# Altium footprint library WR-TBL_Spring Clamp_5.00mm.PcbLib: 78 footprints (part 3 of 5)
Each footprint in its own frame and in the unit in brackets; x right, y up, seen from the top. Pads: shape width x height; smd on the part's side, far side on the other; paste and mask are expansions set on the pad; w line width, h text height; cw(c..) or ccw(c..) is an arc to the next point about the centre after c.
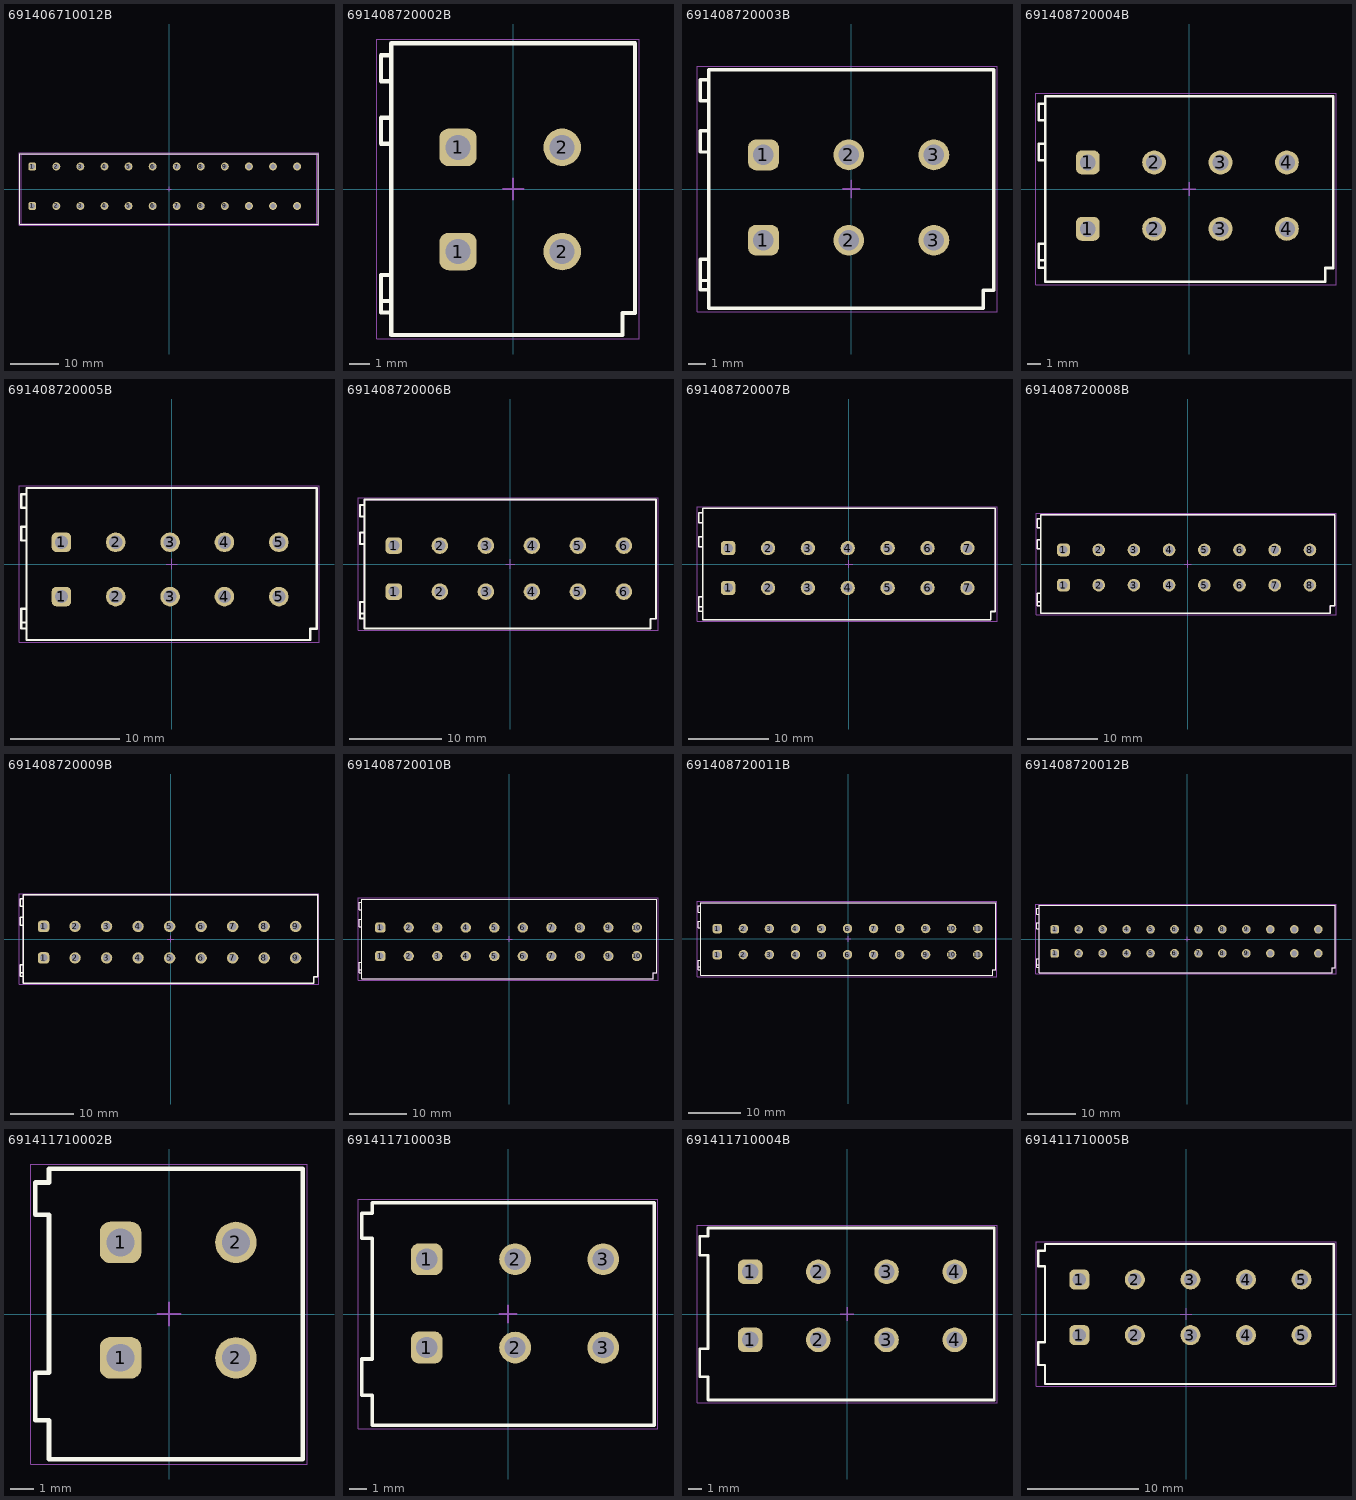
[diagram p2: the footprints below, top view; thin cyan lines are the x and y axes]

## 691406710012B [mm] "5.0MM HORIZONTAL SCREWLESS PUSH IN, 12p"
height 13.5
pads (24):
  rrect50% 1.65x1.65 hole 1.1: 1(-28.4,-3.53) 1(-28.4,4.67)
  round 1.65 hole 1.1: 2(-23.4,-3.53) 2(-23.4,4.67) 3(-18.4,-3.53) 3(-18.4,4.67) 4(-13.4,-3.53) 4(-13.4,4.67) 5(-8.4,-3.53) 5(-8.4,4.67) 6(-3.4,-3.53) 6(-3.4,4.67) 7(1.6,-3.53) 7(1.6,4.67) 8(6.6,-3.53) 8(6.6,4.67) 9(11.6,-3.53) 9(11.6,4.67) 10(16.6,-3.53) 10(16.6,4.67) 11(21.6,-3.53) 11(21.6,4.67) 12(26.6,-3.53) 12(26.6,4.67)
Top Overlay:
  lines w0.2: -30.95,-7.35 30.95,-7.35 30.95,7.35 -30.95,7.35 -30.95,-7.35
Top Assembly:
  lines w0.1: -30.7,-7.2 30.7,-7.2 30.7,7.2 -30.7,7.2 -30.7,-7.2
Top Designator:
  text ".Designator" at -3.647,-0.357 h1
Top 3D Body:
  lines w0.1: -30.7,-7.2 -30.7,7.2 30.7,7.2 30.7,-7.2 -30.7,-7.2
Top Courtyard:
  lines w0.05: -31.15,-7.55 -31.15,7.55 31.15,7.55 31.15,-7.55 -31.15,-7.55
Top Component Center:
  lines w0.1: -0.5,0 0.5,0 ; 0,-0.5 0,0.5
3D body "691406710012B.stp": height 13.55, standoff -2.45, extent -30.7,-7.2 30.7,7.2

## 691408720002B [mm] "5mm 45deg Screwless Push-in, 2p"
height 13.5
pads (4):
  rrect50% 1.8x1.8 hole 1.2: 1(-2.65,-3) 1(-2.65,2)
  round 1.8 hole 1.2: 2(2.35,-3) 2(2.35,2)
Top Overlay:
  lines w0.2: -6.35,-5.37 -5.85,-5.37 ; -5.85,-5.92 -6.35,-5.92 -6.35,-4.12 -5.85,-4.12 ; -5.85,2.17 -6.35,2.17 -6.35,3.42 -5.85,3.42 ; -5.85,5.17 -6.35,5.17 -6.35,6.42 -5.85,6.42 ; -5.85,-7 -5.85,7 5.85,7 5.85,-5.95 5.25,-5.95 5.25,-7 -5.85,-7
Top Assembly:
  lines w0.1: -6.35,-5.37 -5.85,-5.37 ; -5.85,-5.92 -6.35,-5.92 -6.35,-4.12 -5.85,-4.12 ; -5.85,2.17 -6.35,2.17 -6.35,3.42 -5.85,3.42 ; -5.85,5.17 -6.35,5.17 -6.35,6.42 -5.85,6.42 ; -5.85,-7 -5.85,7 5.85,7 5.85,-5.95 5.25,-5.95 5.25,-7 -5.85,-7
Top Designator:
  text ".Designator" at -3.647,-0.357 h1
Top 3D Body:
  lines w0.1: -6.35,-5.37 -5.85,-5.37 ; -5.85,-5.92 -6.35,-5.92 -6.35,-4.12 -5.85,-4.12 ; -5.85,2.17 -6.35,2.17 -6.35,3.42 -5.85,3.42 ; -5.85,5.17 -6.35,5.17 -6.35,6.42 -5.85,6.42 ; -5.85,-7 5.25,-7 5.25,-5.95 5.85,-5.95 5.85,7 -5.85,7 -5.85,-7
Top Courtyard:
  lines w0.05: -6.55,-7.2 6.05,-7.2 6.05,7.2 -6.55,7.2 -6.55,-7.2
Top Component Center:
  lines w0.1: -0.5,0 0.5,0 ; 0,-0.5 0,0.5
3D body "691408720002B.stp": height 13.55, standoff -4, extent -6.35,-7 5.85,7

## 691408720003B [mm] "5mm 45deg Screwless Push-in, 3p"
height 13.5
pads (6):
  rrect50% 1.8x1.8 hole 1.2: 1(-5.15,-3) 1(-5.15,2)
  round 1.8 hole 1.2: 2(-0.15,-3) 2(-0.15,2) 3(4.85,-3) 3(4.85,2)
Top Overlay:
  lines w0.2: -8.85,-5.37 -8.35,-5.37 ; -8.35,-5.92 -8.85,-5.92 -8.85,-4.12 -8.35,-4.12 ; -8.35,2.17 -8.85,2.17 -8.85,3.42 -8.35,3.42 ; -8.35,5.17 -8.85,5.17 -8.85,6.42 -8.35,6.42 ; -8.35,-7 -8.35,7 8.35,7 8.35,-5.95 7.75,-5.95 7.75,-7 -8.35,-7
Top Assembly:
  lines w0.1: -8.85,-5.37 -8.35,-5.37 ; -8.35,-5.92 -8.85,-5.92 -8.85,-4.12 -8.35,-4.12 ; -8.35,2.17 -8.85,2.17 -8.85,3.42 -8.35,3.42 ; -8.35,5.17 -8.85,5.17 -8.85,6.42 -8.35,6.42 ; -8.35,-7 -8.35,7 8.35,7 8.35,-5.95 7.75,-5.95 7.75,-7 -8.35,-7
Top Designator:
  text ".Designator" at -3.647,-0.357 h1
Top 3D Body:
  lines w0.1: -8.85,-5.37 -8.35,-5.37 ; -8.35,-5.92 -8.85,-5.92 -8.85,-4.12 -8.35,-4.12 ; -8.35,2.17 -8.85,2.17 -8.85,3.42 -8.35,3.42 ; -8.35,5.17 -8.85,5.17 -8.85,6.42 -8.35,6.42 ; -8.35,-7 7.75,-7 7.75,-5.95 8.35,-5.95 8.35,7 -8.35,7 -8.35,-7
Top Courtyard:
  lines w0.05: -9.05,-7.2 -9.05,7.2 8.55,7.2 8.55,-7.2 -9.05,-7.2
Top Component Center:
  lines w0.1: -0.5,0 0.5,0 ; 0,-0.5 0,0.5
3D body "691408720003B.stp": height 13.55, standoff -4, extent -8.85,-7 8.35,7

## 691408720004B [mm] "5mm 45deg Screwless Push-in, 4p"
height 13.5
pads (8):
  rrect50% 1.8x1.8 hole 1.2: 1(-7.65,-3) 1(-7.65,2)
  round 1.8 hole 1.2: 2(-2.65,-3) 2(-2.65,2) 3(2.35,-3) 3(2.35,2) 4(7.35,-3) 4(7.35,2)
Top Overlay:
  lines w0.2: -11.35,-5.37 -10.85,-5.37 ; -10.85,-5.92 -11.35,-5.92 -11.35,-4.12 -10.85,-4.12 ; -10.85,2.17 -11.35,2.17 -11.35,3.42 -10.85,3.42 ; -10.85,5.17 -11.35,5.17 -11.35,6.42 -10.85,6.42 ; -10.85,-7 -10.85,7 10.85,7 10.85,-5.95 10.25,-5.95 10.25,-7 -10.85,-7
Top Assembly:
  lines w0.1: -11.35,-5.37 -10.85,-5.37 ; -10.85,-5.92 -11.35,-5.92 -11.35,-4.12 -10.85,-4.12 ; -10.85,2.17 -11.35,2.17 -11.35,3.42 -10.85,3.42 ; -10.85,5.17 -11.35,5.17 -11.35,6.42 -10.85,6.42 ; -10.85,-7 -10.85,7 10.85,7 10.85,-5.95 10.25,-5.95 10.25,-7 -10.85,-7
Top Designator:
  text ".Designator" at -3.647,-0.357 h1
Top 3D Body:
  lines w0.1: -11.35,-5.37 -10.85,-5.37 ; -10.85,-5.92 -11.35,-5.92 -11.35,-4.12 -10.85,-4.12 ; -10.85,2.17 -11.35,2.17 -11.35,3.42 -10.85,3.42 ; -10.85,5.17 -11.35,5.17 -11.35,6.42 -10.85,6.42 ; -10.85,-7 10.25,-7 10.25,-5.95 10.85,-5.95 10.85,7 -10.85,7 -10.85,-7
Top Courtyard:
  lines w0.05: -11.55,-7.2 -11.55,7.2 11.05,7.2 11.05,-7.2 -11.55,-7.2
Top Component Center:
  lines w0.1: -0.5,0 0.5,0 ; 0,-0.5 0,0.5
3D body "691408720004B.stp": height 13.55, standoff -4, extent -11.35,-7 10.85,7

## 691408720005B [mm] "5mm 45deg Screwless Push-in, 5p"
height 13.5
pads (10):
  rrect50% 1.8x1.8 hole 1.2: 1(-10.15,-3) 1(-10.15,2)
  round 1.8 hole 1.2: 2(-5.15,-3) 2(-5.15,2) 3(-0.15,-3) 3(-0.15,2) 4(4.85,-3) 4(4.85,2) 5(9.85,-3) 5(9.85,2)
Top Overlay:
  lines w0.2: -13.85,-5.37 -13.35,-5.37 ; -13.35,-5.92 -13.85,-5.92 -13.85,-4.12 -13.35,-4.12 ; -13.35,2.17 -13.85,2.17 -13.85,3.42 -13.35,3.42 ; -13.35,5.17 -13.85,5.17 -13.85,6.42 -13.35,6.42 ; -13.35,-7 12.75,-7 12.75,-5.95 13.35,-5.95 13.35,7 -13.35,7 -13.35,-7
Top Assembly:
  lines w0.1: -13.85,-5.37 -13.35,-5.37 ; -13.35,-5.92 -13.85,-5.92 -13.85,-4.12 -13.35,-4.12 ; -13.35,2.17 -13.85,2.17 -13.85,3.42 -13.35,3.42 ; -13.35,5.17 -13.85,5.17 -13.85,6.42 -13.35,6.42 ; -13.35,-7 12.75,-7 12.75,-5.95 13.35,-5.95 13.35,7 -13.35,7 -13.35,-7
Top Designator:
  text ".Designator" at -3.647,-0.357 h1
Top 3D Body:
  lines w0.1: -13.85,-5.37 -13.35,-5.37 ; -13.35,-5.92 -13.85,-5.92 -13.85,-4.12 -13.35,-4.12 ; -13.35,2.17 -13.85,2.17 -13.85,3.42 -13.35,3.42 ; -13.35,5.17 -13.85,5.17 -13.85,6.42 -13.35,6.42 ; -13.35,-7 -13.35,7 13.35,7 13.35,-5.95 12.75,-5.95 12.75,-7 -13.35,-7
Top Courtyard:
  lines w0.05: -14.05,-7.2 13.55,-7.2 13.55,7.2 -14.05,7.2 -14.05,-7.2
Top Component Center:
  lines w0.1: -0.5,0 0.5,0 ; 0,-0.5 0,0.5
3D body "691408720005B.stp": height 13.55, standoff -4, extent -13.85,-7 13.35,7

## 691408720006B [mm] "5mm 45deg Screwless Push-in, 6p"
height 13.5
pads (12):
  rrect50% 1.8x1.8 hole 1.2: 1(-12.65,-3) 1(-12.65,2)
  round 1.8 hole 1.2: 2(-7.65,-3) 2(-7.65,2) 3(-2.65,-3) 3(-2.65,2) 4(2.35,-3) 4(2.35,2) 5(7.35,-3) 5(7.35,2) 6(12.35,-3) 6(12.35,2)
Top Overlay:
  lines w0.2: -16.35,-5.37 -15.85,-5.37 ; -15.85,-5.92 -16.35,-5.92 -16.35,-4.12 -15.85,-4.12 ; -15.85,2.17 -16.35,2.17 -16.35,3.42 -15.85,3.42 ; -15.85,5.17 -16.35,5.17 -16.35,6.42 -15.85,6.42 ; -15.85,-7 15.25,-7 15.25,-5.95 15.85,-5.95 15.85,7 -15.85,7 -15.85,-7
Top Assembly:
  lines w0.1: -16.35,-5.37 -15.85,-5.37 ; -15.85,-5.92 -16.35,-5.92 -16.35,-4.12 -15.85,-4.12 ; -15.85,2.17 -16.35,2.17 -16.35,3.42 -15.85,3.42 ; -15.85,5.17 -16.35,5.17 -16.35,6.42 -15.85,6.42 ; -15.85,-7 15.25,-7 15.25,-5.95 15.85,-5.95 15.85,7 -15.85,7 -15.85,-7
Top Designator:
  text ".Designator" at -3.647,-0.357 h1
Top 3D Body:
  lines w0.1: -16.35,-5.37 -15.85,-5.37 ; -15.85,-5.92 -16.35,-5.92 -16.35,-4.12 -15.85,-4.12 ; -15.85,2.17 -16.35,2.17 -16.35,3.42 -15.85,3.42 ; -15.85,5.17 -16.35,5.17 -16.35,6.42 -15.85,6.42 ; -15.85,-7 -15.85,7 15.85,7 15.85,-5.95 15.25,-5.95 15.25,-7 -15.85,-7
Top Courtyard:
  lines w0.05: -16.55,-7.2 16.05,-7.2 16.05,7.2 -16.55,7.2 -16.55,-7.2
Top Component Center:
  lines w0.1: -0.5,0 0.5,0 ; 0,-0.5 0,0.5
3D body "691408720006B.stp": height 13.55, standoff -4, extent -16.35,-7 15.85,7

## 691408720007B [mm] "5mm 45deg Screwless Push-in, 7p"
height 13.5
pads (14):
  rrect50% 1.8x1.8 hole 1.2: 1(-15.15,-3) 1(-15.15,2)
  round 1.8 hole 1.2: 2(-10.15,-3) 2(-10.15,2) 3(-5.15,-3) 3(-5.15,2) 4(-0.15,-3) 4(-0.15,2) 5(4.85,-3) 5(4.85,2) 6(9.85,-3) 6(9.85,2) 7(14.85,-3) 7(14.85,2)
Top Overlay:
  lines w0.2: -18.85,-5.37 -18.35,-5.37 ; -18.35,-5.92 -18.85,-5.92 -18.85,-4.12 -18.35,-4.12 ; -18.35,2.17 -18.85,2.17 -18.85,3.42 -18.35,3.42 ; -18.35,5.17 -18.85,5.17 -18.85,6.42 -18.35,6.42 ; -18.35,-7 17.75,-7 17.75,-5.95 18.35,-5.95 18.35,7 -18.35,7 -18.35,-7
Top Assembly:
  lines w0.1: -18.85,-5.37 -18.35,-5.37 ; -18.35,-5.92 -18.85,-5.92 -18.85,-4.12 -18.35,-4.12 ; -18.35,2.17 -18.85,2.17 -18.85,3.42 -18.35,3.42 ; -18.35,5.17 -18.85,5.17 -18.85,6.42 -18.35,6.42 ; -18.35,-7 17.75,-7 17.75,-5.95 18.35,-5.95 18.35,7 -18.35,7 -18.35,-7
Top Designator:
  text ".Designator" at -3.647,-0.357 h1
Top 3D Body:
  lines w0.1: -18.85,-5.37 -18.35,-5.37 ; -18.35,-5.92 -18.85,-5.92 -18.85,-4.12 -18.35,-4.12 ; -18.35,2.17 -18.85,2.17 -18.85,3.42 -18.35,3.42 ; -18.35,5.17 -18.85,5.17 -18.85,6.42 -18.35,6.42 ; -18.35,-7 -18.35,7 18.35,7 18.35,-5.95 17.75,-5.95 17.75,-7 -18.35,-7
Top Courtyard:
  lines w0.05: -19.05,-7.2 18.55,-7.2 18.55,7.2 -19.05,7.2 -19.05,-7.2
Top Component Center:
  lines w0.1: -0.5,0 0.5,0 ; 0,-0.5 0,0.5
3D body "691408720007B.stp": height 13.55, standoff -4, extent -18.85,-7 18.35,7

## 691408720008B [mm] "5mm 45deg Screwless Push-in, 8p"
height 13.5
pads (16):
  rrect50% 1.8x1.8 hole 1.2: 1(-17.65,-3) 1(-17.65,2)
  round 1.8 hole 1.2: 2(-12.65,-3) 2(-12.65,2) 3(-7.65,-3) 3(-7.65,2) 4(-2.65,-3) 4(-2.65,2) 5(2.35,-3) 5(2.35,2) 6(7.35,-3) 6(7.35,2) 7(12.35,-3) 7(12.35,2) 8(17.35,-3) 8(17.35,2)
Top Overlay:
  lines w0.2: -21.35,-5.37 -20.85,-5.37 ; -20.85,-5.92 -21.35,-5.92 -21.35,-4.12 -20.85,-4.12 ; -20.85,2.17 -21.35,2.17 -21.35,3.42 -20.85,3.42 ; -20.85,5.17 -21.35,5.17 -21.35,6.42 -20.85,6.42 ; -20.85,-7 -20.85,7 20.85,7 20.85,-5.95 20.25,-5.95 20.25,-7 -20.85,-7
Top Assembly:
  lines w0.1: -21.35,-5.37 -20.85,-5.37 ; -20.85,-5.92 -21.35,-5.92 -21.35,-4.12 -20.85,-4.12 ; -20.85,2.17 -21.35,2.17 -21.35,3.42 -20.85,3.42 ; -20.85,5.17 -21.35,5.17 -21.35,6.42 -20.85,6.42 ; -20.85,-7 -20.85,7 20.85,7 20.85,-5.95 20.25,-5.95 20.25,-7 -20.85,-7
Top Designator:
  text ".Designator" at -3.647,-0.357 h1
Top 3D Body:
  lines w0.1: -21.35,-5.37 -20.85,-5.37 ; -20.85,-5.92 -21.35,-5.92 -21.35,-4.12 -20.85,-4.12 ; -20.85,2.17 -21.35,2.17 -21.35,3.42 -20.85,3.42 ; -20.85,5.17 -21.35,5.17 -21.35,6.42 -20.85,6.42 ; -20.85,-7 20.25,-7 20.25,-5.95 20.85,-5.95 20.85,7 -20.85,7 -20.85,-7
Top Courtyard:
  lines w0.05: -21.55,-7.2 -21.55,7.2 21.05,7.2 21.05,-7.2 -21.55,-7.2
Top Component Center:
  lines w0.1: -0.5,0 0.5,0 ; 0,-0.5 0,0.5
3D body "691408720008B.stp": height 13.55, standoff -4, extent -21.35,-7 20.85,7

## 691408720009B [mm] "5mm 45deg Screwless Push-in, 9p"
height 13.5
pads (18):
  rrect50% 1.8x1.8 hole 1.2: 1(-20.15,-3) 1(-20.15,2)
  round 1.8 hole 1.2: 2(-15.15,-3) 2(-15.15,2) 3(-10.15,-3) 3(-10.15,2) 4(-5.15,-3) 4(-5.15,2) 5(-0.15,-3) 5(-0.15,2) 6(4.85,-3) 6(4.85,2) 7(9.85,-3) 7(9.85,2) 8(14.85,-3) 8(14.85,2) 9(19.85,-3) 9(19.85,2)
Top Overlay:
  lines w0.2: -23.85,-5.37 -23.35,-5.37 ; -23.35,-5.92 -23.85,-5.92 -23.85,-4.12 -23.35,-4.12 ; -23.35,2.17 -23.85,2.17 -23.85,3.42 -23.35,3.42 ; -23.35,5.17 -23.85,5.17 -23.85,6.42 -23.35,6.42 ; -23.35,-7 -23.35,7 23.35,7 23.35,-5.95 22.75,-5.95 22.75,-7 -23.35,-7
Top Assembly:
  lines w0.1: -23.85,-5.37 -23.35,-5.37 ; -23.35,-5.92 -23.85,-5.92 -23.85,-4.12 -23.35,-4.12 ; -23.35,2.17 -23.85,2.17 -23.85,3.42 -23.35,3.42 ; -23.35,5.17 -23.85,5.17 -23.85,6.42 -23.35,6.42 ; -23.35,-7 -23.35,7 23.35,7 23.35,-5.95 22.75,-5.95 22.75,-7 -23.35,-7
Top Designator:
  text ".Designator" at -3.647,-0.357 h1
Top 3D Body:
  lines w0.1: -23.85,-5.37 -23.35,-5.37 ; -23.35,-5.92 -23.85,-5.92 -23.85,-4.12 -23.35,-4.12 ; -23.35,2.17 -23.85,2.17 -23.85,3.42 -23.35,3.42 ; -23.35,5.17 -23.85,5.17 -23.85,6.42 -23.35,6.42 ; -23.35,-7 22.75,-7 22.75,-5.95 23.35,-5.95 23.35,7 -23.35,7 -23.35,-7
Top Courtyard:
  lines w0.05: -24.05,-7.2 -24.05,7.2 23.55,7.2 23.55,-7.2 -24.05,-7.2
Top Component Center:
  lines w0.1: -0.5,0 0.5,0 ; 0,-0.5 0,0.5
3D body "691408720009B.stp": height 13.55, standoff -4, extent -23.85,-7 23.35,7

## 691408720010B [mm] "5mm 45deg Screwless Push-in, 10p"
height 13.5
pads (20):
  rrect50% 1.8x1.8 hole 1.2: 1(-22.65,-3) 1(-22.65,2)
  round 1.8 hole 1.2: 2(-17.65,-3) 2(-17.65,2) 3(-12.65,-3) 3(-12.65,2) 4(-7.65,-3) 4(-7.65,2) 5(-2.65,-3) 5(-2.65,2) 6(2.35,-3) 6(2.35,2) 7(7.35,-3) 7(7.35,2) 8(12.35,-3) 8(12.35,2) 9(17.35,-3) 9(17.35,2) 10(22.35,-3) 10(22.35,2)
Top Overlay:
  lines w0.2: -26.35,-5.37 -25.85,-5.37 ; -25.85,-5.92 -26.35,-5.92 -26.35,-4.12 -25.85,-4.12 ; -25.85,2.17 -26.35,2.17 -26.35,3.42 -25.85,3.42 ; -25.85,5.17 -26.35,5.17 -26.35,6.42 -25.85,6.42 ; -25.85,-7 -25.85,7 25.85,7 25.85,-5.95 25.25,-5.95 25.25,-7 -25.85,-7
Top Assembly:
  lines w0.1: -26.35,-5.37 -25.85,-5.37 ; -25.85,-5.92 -26.35,-5.92 -26.35,-4.12 -25.85,-4.12 ; -25.85,2.17 -26.35,2.17 -26.35,3.42 -25.85,3.42 ; -25.85,5.17 -26.35,5.17 -26.35,6.42 -25.85,6.42 ; -25.85,-7 -25.85,7 25.85,7 25.85,-5.95 25.25,-5.95 25.25,-7 -25.85,-7
Top Designator:
  text ".Designator" at -3.647,-0.357 h1
Top 3D Body:
  lines w0.1: -26.35,-5.37 -25.85,-5.37 ; -25.85,-5.92 -26.35,-5.92 -26.35,-4.12 -25.85,-4.12 ; -25.85,2.17 -26.35,2.17 -26.35,3.42 -25.85,3.42 ; -25.85,5.17 -26.35,5.17 -26.35,6.42 -25.85,6.42 ; -25.85,-7 25.25,-7 25.25,-5.95 25.85,-5.95 25.85,7 -25.85,7 -25.85,-7
Top Courtyard:
  lines w0.05: -26.55,-7.2 -26.55,7.2 26.05,7.2 26.05,-7.2 -26.55,-7.2
Top Component Center:
  lines w0.1: -0.5,0 0.5,0 ; 0,-0.5 0,0.5
3D body "691408720010B.stp": height 13.55, standoff -4, extent -26.35,-7 25.85,7

## 691408720011B [mm] "5mm 45deg Screwless Push-in, 11p"
height 13.5
pads (22):
  rrect50% 1.8x1.8 hole 1.2: 1(-25.15,-3) 1(-25.15,2)
  round 1.8 hole 1.2: 2(-20.15,-3) 2(-20.15,2) 3(-15.15,-3) 3(-15.15,2) 4(-10.15,-3) 4(-10.15,2) 5(-5.15,-3) 5(-5.15,2) 6(-0.15,-3) 6(-0.15,2) 7(4.85,-3) 7(4.85,2) 8(9.85,-3) 8(9.85,2) 9(14.85,-3) 9(14.85,2) 10(19.85,-3) 10(19.85,2) 11(24.85,-3) 11(24.85,2)
Top Overlay:
  lines w0.2: -28.85,-5.37 -28.35,-5.37 ; -28.35,-5.92 -28.85,-5.92 -28.85,-4.12 -28.35,-4.12 ; -28.35,2.17 -28.85,2.17 -28.85,3.42 -28.35,3.42 ; -28.35,5.17 -28.85,5.17 -28.85,6.42 -28.35,6.42 ; -28.35,-7 -28.35,7 28.35,7 28.35,-5.95 27.75,-5.95 27.75,-7 -28.35,-7
Top Assembly:
  lines w0.1: -28.85,-5.37 -28.35,-5.37 ; -28.35,-5.92 -28.85,-5.92 -28.85,-4.12 -28.35,-4.12 ; -28.35,2.17 -28.85,2.17 -28.85,3.42 -28.35,3.42 ; -28.35,5.17 -28.85,5.17 -28.85,6.42 -28.35,6.42 ; -28.35,-7 -28.35,7 28.35,7 28.35,-5.95 27.75,-5.95 27.75,-7 -28.35,-7
Top Designator:
  text ".Designator" at -3.647,-0.357 h1
Top 3D Body:
  lines w0.1: -28.85,-5.37 -28.35,-5.37 ; -28.35,-5.92 -28.85,-5.92 -28.85,-4.12 -28.35,-4.12 ; -28.35,2.17 -28.85,2.17 -28.85,3.42 -28.35,3.42 ; -28.35,5.17 -28.85,5.17 -28.85,6.42 -28.35,6.42 ; -28.35,-7 27.75,-7 27.75,-5.95 28.35,-5.95 28.35,7 -28.35,7 -28.35,-7
Top Courtyard:
  lines w0.05: -29.05,-7.2 -29.05,7.2 28.55,7.2 28.55,-7.2 -29.05,-7.2
Top Component Center:
  lines w0.1: -0.5,0 0.5,0 ; 0,-0.5 0,0.5
3D body "691408720011B.stp": height 13.55, standoff -4, extent -28.85,-7 28.35,7

## 691408720012B [mm] "5mm 45deg Screwless Push-in, 12p"
height 13.5
pads (24):
  rrect50% 1.8x1.8 hole 1.2: 1(-27.65,-3) 1(-27.65,2)
  round 1.8 hole 1.2: 2(-22.65,-3) 2(-22.65,2) 3(-17.65,-3) 3(-17.65,2) 4(-12.65,-3) 4(-12.65,2) 5(-7.65,-3) 5(-7.65,2) 6(-2.65,-3) 6(-2.65,2) 7(2.35,-3) 7(2.35,2) 8(7.35,-3) 8(7.35,2) 9(12.35,-3) 9(12.35,2) 10(17.35,-3) 10(17.35,2) 11(22.35,-3) 11(22.35,2) 12(27.35,-3) 12(27.35,2)
Top Overlay:
  lines w0.2: -31.35,-5.37 -30.85,-5.37 ; -30.85,-5.92 -31.35,-5.92 -31.35,-4.12 -30.85,-4.12 ; -30.85,2.17 -31.35,2.17 -31.35,3.42 -30.85,3.42 ; -30.85,5.17 -31.35,5.17 -31.35,6.42 -30.85,6.42 ; -30.85,-7 -30.85,7 30.85,7 30.85,-5.95 30.25,-5.95 30.25,-7 -30.85,-7
Top Assembly:
  lines w0.1: -31.35,-5.37 -30.85,-5.37 ; -30.85,-5.92 -31.35,-5.92 -31.35,-4.12 -30.85,-4.12 ; -30.85,2.17 -31.35,2.17 -31.35,3.42 -30.85,3.42 ; -30.85,5.17 -31.35,5.17 -31.35,6.42 -30.85,6.42 ; -30.85,-7 -30.85,7 30.85,7 30.85,-5.95 30.25,-5.95 30.25,-7 -30.85,-7
Top Designator:
  text ".Designator" at -3.647,-0.357 h1
Top 3D Body:
  lines w0.1: -31.35,-5.37 -30.85,-5.37 ; -30.85,-5.92 -31.35,-5.92 -31.35,-4.12 -30.85,-4.12 ; -30.85,2.17 -31.35,2.17 -31.35,3.42 -30.85,3.42 ; -30.85,5.17 -31.35,5.17 -31.35,6.42 -30.85,6.42 ; -30.85,-7 30.25,-7 30.25,-5.95 30.85,-5.95 30.85,7 -30.85,7 -30.85,-7
Top Courtyard:
  lines w0.05: -31.55,-7.2 -31.55,7.2 31.05,7.2 31.05,-7.2 -31.55,-7.2
Top Component Center:
  lines w0.1: -0.5,0 0.5,0 ; 0,-0.5 0,0.5
3D body "691408720012B.stp": height 13.55, standoff -4, extent -31.35,-7 30.85,7

## 691411710002B [mm] "5.00 mm Screwless Horizontal Entry - 2.0 mm2 Wires, 2p"
height 15.25
pads (4):
  rrect50% 1.8x1.8 hole 1.2: 1(-2.1,-1.9) 1(-2.1,3.1)
  round 1.8 hole 1.2: 2(2.9,-1.9) 2(2.9,3.1)
Top Overlay:
  lines w0.2: -5.8,-4.6 -5.2,-4.6 -5.2,-6.3 5.8,-6.3 5.8,6.3 -5.2,6.3 -5.2,5.7 -5.8,5.7 -5.8,4.3 -5.2,4.3 -5.2,-2.55 -5.8,-2.55 -5.8,-4.6
Top Assembly:
  lines w0.1: -5.8,-4.6 -5.8,-2.55 -5.2,-2.55 -5.2,4.3 -5.8,4.3 -5.8,5.7 -5.2,5.7 -5.2,6.3 5.8,6.3 5.8,-6.3 -5.2,-6.3 -5.2,-4.6 -5.8,-4.6
Top Designator:
  text ".Designator" at -3.647,-0.357 h1
Top 3D Body:
  lines w0.1: -5.8,-4.6 -5.2,-4.6 -5.2,-6.3 5.8,-6.3 5.8,6.3 -5.2,6.3 -5.2,5.7 -5.8,5.7 -5.8,4.3 -5.2,4.3 -5.2,-2.55 -5.8,-2.55 -5.8,-4.6
Top Courtyard:
  lines w0.05: -6,-6.5 6,-6.5 6,6.5 -6,6.5 -6,-6.5
Top Component Center:
  lines w0.1: -0.5,0 0.5,0 ; 0,-0.5 0,0.5
3D body "691411710002B.stp": height 15.65, standoff -3.55, extent -5.8,-6.3 5.8,6.3

## 691411710003B [mm] "5.00 mm Screwless Horizontal Entry - 2.0 mm2 Wires, 3p"
height 15.25
pads (6):
  rrect50% 1.8x1.8 hole 1.2: 1(-4.6,-1.9) 1(-4.6,3.1)
  round 1.8 hole 1.2: 2(0.4,-1.9) 2(0.4,3.1) 3(5.4,-1.9) 3(5.4,3.1)
Top Overlay:
  lines w0.2: -8.3,-4.6 -7.7,-4.6 -7.7,-6.3 8.3,-6.3 8.3,6.3 -7.7,6.3 -7.7,5.7 -8.3,5.7 -8.3,4.3 -7.7,4.3 -7.7,-2.55 -8.3,-2.55 -8.3,-4.6
Top Assembly:
  lines w0.1: -8.3,-4.6 -8.3,-2.55 -7.7,-2.55 -7.7,4.3 -8.3,4.3 -8.3,5.7 -7.7,5.7 -7.7,6.3 8.3,6.3 8.3,-6.3 -7.7,-6.3 -7.7,-4.6 -8.3,-4.6
Top Designator:
  text ".Designator" at -3.647,-0.357 h1
Top 3D Body:
  lines w0.1: -8.3,-4.6 -7.7,-4.6 -7.7,-6.3 8.3,-6.3 8.3,6.3 -7.7,6.3 -7.7,5.7 -8.3,5.7 -8.3,4.3 -7.7,4.3 -7.7,-2.55 -8.3,-2.55 -8.3,-4.6
Top Courtyard:
  lines w0.05: -8.5,-6.5 8.5,-6.5 8.5,6.5 -8.5,6.5 -8.5,-6.5
Top Component Center:
  lines w0.1: -0.5,0 0.5,0 ; 0,-0.5 0,0.5
3D body "691411710003B.stp": height 15.65, standoff -3.55, extent -8.3,-6.3 8.3,6.3

## 691411710004B [mm] "5.00 mm Screwless Horizontal Entry - 2.0 mm2 Wires, 4p"
height 15.25
pads (8):
  rrect50% 1.8x1.8 hole 1.2: 1(-7.1,-1.9) 1(-7.1,3.1)
  round 1.8 hole 1.2: 2(-2.1,-1.9) 2(-2.1,3.1) 3(2.9,-1.9) 3(2.9,3.1) 4(7.9,-1.9) 4(7.9,3.1)
Top Overlay:
  lines w0.2: -10.8,-4.6 -10.2,-4.6 -10.2,-6.3 10.8,-6.3 10.8,6.3 -10.2,6.3 -10.2,5.7 -10.8,5.7 -10.8,4.3 -10.2,4.3 -10.2,-2.55 -10.8,-2.55 -10.8,-4.6
Top Assembly:
  lines w0.1: -10.8,-4.6 -10.8,-2.55 -10.2,-2.55 -10.2,4.3 -10.8,4.3 -10.8,5.7 -10.2,5.7 -10.2,6.3 10.8,6.3 10.8,-6.3 -10.2,-6.3 -10.2,-4.6 -10.8,-4.6
Top Designator:
  text ".Designator" at -3.647,-0.357 h1
Top 3D Body:
  lines w0.1: -10.8,-4.6 -10.2,-4.6 -10.2,-6.3 10.8,-6.3 10.8,6.3 -10.2,6.3 -10.2,5.7 -10.8,5.7 -10.8,4.3 -10.2,4.3 -10.2,-2.55 -10.8,-2.55 -10.8,-4.6
Top Courtyard:
  lines w0.05: -11,-6.5 11,-6.5 11,6.5 -11,6.5 -11,-6.5
Top Component Center:
  lines w0.1: -0.5,0 0.5,0 ; 0,-0.5 0,0.5
3D body "691411710004B.stp": height 15.65, standoff -3.55, extent -10.8,-6.3 10.8,6.3

## 691411710005B [mm] "5.00 mm Screwless Horizontal Entry - 2.0 mm2 Wires, 5p"
height 15.25
pads (10):
  rrect50% 1.8x1.8 hole 1.2: 1(-9.6,-1.9) 1(-9.6,3.1)
  round 1.8 hole 1.2: 2(-4.6,-1.9) 2(-4.6,3.1) 3(0.4,-1.9) 3(0.4,3.1) 4(5.4,-1.9) 4(5.4,3.1) 5(10.4,-1.9) 5(10.4,3.1)
Top Overlay:
  lines w0.2: -13.3,-4.6 -13.3,-2.55 -12.7,-2.55 -12.7,4.3 -13.3,4.3 -13.3,5.7 -12.7,5.7 -12.7,6.3 13.3,6.3 13.3,-6.3 -12.7,-6.3 -12.7,-4.6 -13.3,-4.6
Top Assembly:
  lines w0.1: -13.3,-4.6 -12.7,-4.6 -12.7,-6.3 13.3,-6.3 13.3,6.3 -12.7,6.3 -12.7,5.7 -13.3,5.7 -13.3,4.3 -12.7,4.3 -12.7,-2.55 -13.3,-2.55 -13.3,-4.6
Top Designator:
  text ".Designator" at -3.647,-0.357 h1
Top 3D Body:
  lines w0.1: -13.3,-4.6 -13.3,-2.55 -12.7,-2.55 -12.7,4.3 -13.3,4.3 -13.3,5.7 -12.7,5.7 -12.7,6.3 13.3,6.3 13.3,-6.3 -12.7,-6.3 -12.7,-4.6 -13.3,-4.6
Top Courtyard:
  lines w0.05: -13.5,-6.5 -13.5,6.5 13.5,6.5 13.5,-6.5 -13.5,-6.5
Top Component Center:
  lines w0.1: -0.5,0 0.5,0 ; 0,-0.5 0,0.5
3D body "691411710005B.stp": height 15.65, standoff -3.55, extent -13.3,-6.3 13.3,6.3